# Altium schematic symbol library FPG-YAY.SchLib: 9 symbols
Pins are listed as number, name and electrical type; pins without a type are passive.

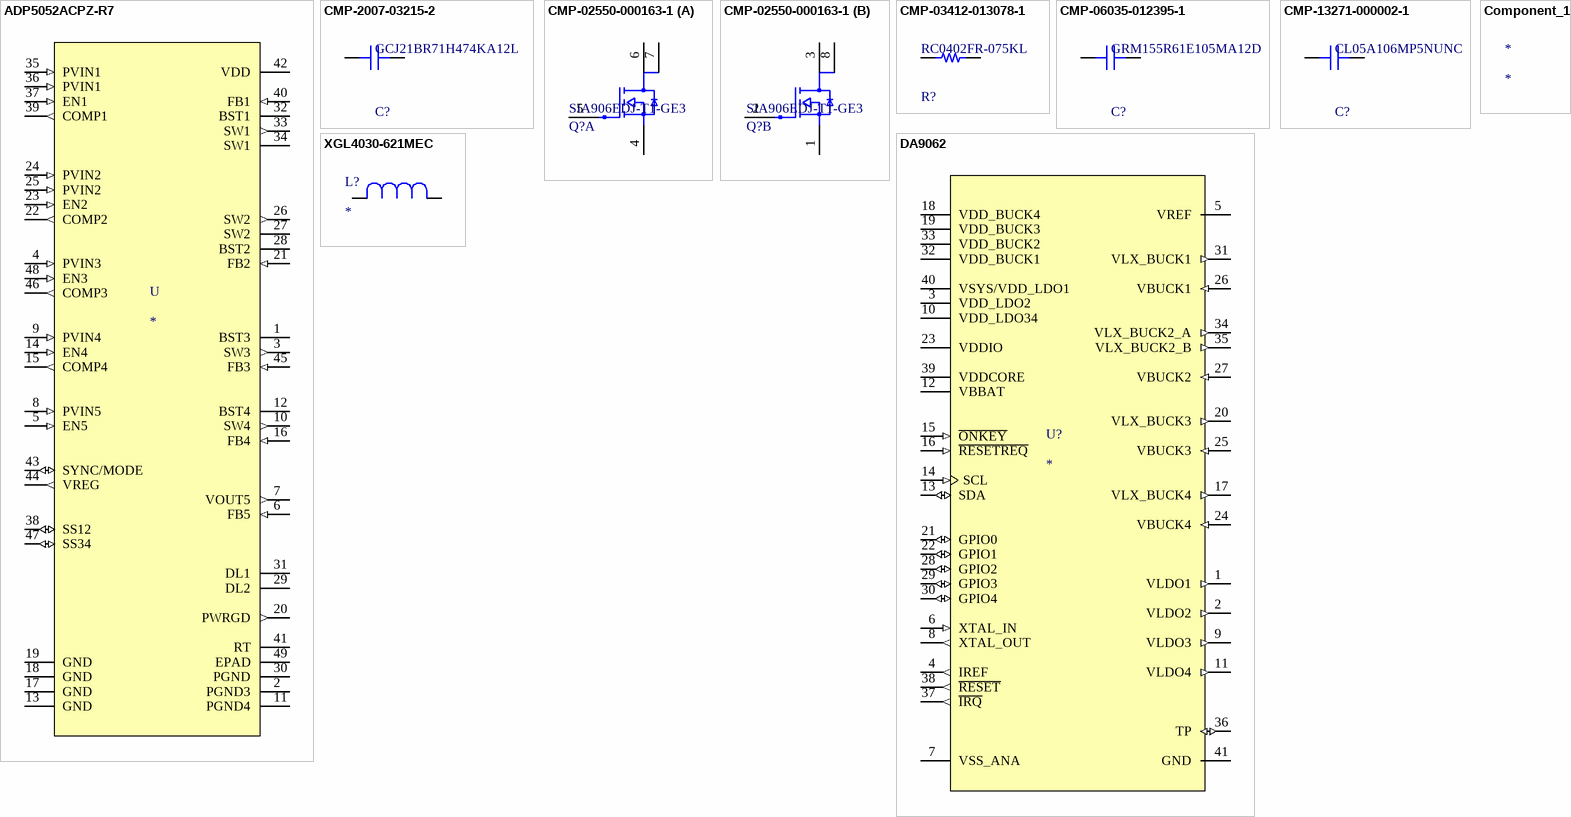
[diagram p0: symbols ADP5052ACPZ-R7 to XGL4030-621MEC]

## ADP5052ACPZ-R7
designator U
PMIC - Voltage Regulators - Linear + Switching 5 Output Step-Down _Buck_ Synchronous _4_, Linear _LDO_ _1_ 740kHz 48-LFCSP-WQ _7x7_; MP: ADP5052ACPZ-R7; MF: Analog Devices; Price: None; Value: *; Package: LFCSP -48 Analog Devices; SnapEDA_Link: https://www.snapeda.com/parts/ADP5052ACPZ-R7/Analog%20Devices%20Inc./view-part/478810/?ref=snap; Availability: Unavailable
footprint QFN50P700X700X80-49N
pins: 1 BST3, 2 PGND3 (power), 3 SW3 (out), 4 PVIN3 (in), 5 EN5 (in), 6 FB5 (in), 7 VOUT5 (out), 8 PVIN5 (in), 9 PVIN4 (in), 10 SW4 (out), 11 PGND4 (power), 12 BST4, 13 GND (power), 14 EN4 (in), 15 COMP4 (out), 16 FB4 (in), 17 GND (power), 18 GND (power), 19 GND (power), 20 PWRGD (out), 21 FB2 (in), 22 COMP2 (out), 23 EN2 (in), 24 PVIN2 (in), 25 PVIN2 (in), 26 SW2 (out), 27 SW2, 28 BST2, 29 DL2, 30 PGND (power), 31 DL1, 32 BST1, 33 SW1 (out), 34 SW1, 35 PVIN1 (in), 36 PVIN1 (in), 37 EN1 (in), 38 SS12 (io), 39 COMP1 (out), 40 FB1 (in), 41 RT, 42 VDD (power), 43 SYNC/MODE (io), 44 VREG (out), 45 FB3 (in), 46 COMP3 (out), 47 SS34 (io), 48 EN3 (in), 49 EPAD (power)

## CMP-2007-03215-2
designator C?, comment GCJ21BR71H474KA12L
Multilayer Ceramic Capacitors MLCC - SMD/SMT 0805 0.47uF 10%, 50VDC,  X7R 15%; Voltage Rating (DC): 50V; Capacitance: 470nF; Case Code (Imperial): 0805; Tolerance: 10%; Length: 0.079inch; Packaging: Tape and Reel; Voltage Rating: 50V; Depth: 1.25mm; Lead Free: Lead Free; Features: Soft Termination; Min Operating Temperature: -55°C; Thickness: 0.057inch; Ratings: AEC-Q200; Case/Package: 0805; Dielectric: X7R; Case Code (Metric): 2012; Mount: Surface Mount; Termination: SMD/SMT; Width: 0.049inch; Max Operating Temperature: 125°C; Package Quantity: 3000
footprint FP-GCJ21B-0_3-IPC_B
footprint FP-GCJ21B-0_3-IPC_C
footprint FP-GCJ21B-0_3-IPC_A
footprint FP-GCJ21B-0_3-MFG
pins: 1, 2

## CMP-02550-000163-1
designator Q?, comment SIA906EDJ-T1-GE3
MOSFET 2N-CH 20V 4.5A SC70-6; Manufacturer: Vishay; Transconductance: 14S; Rthja Max: 52°C/W; Turn On Delay Time: 5ns; Number Of Channels: 2; Threshold Vgs Max: 1.4V; Input Capacitace At Vds: 350pF @ 10V; Power Dissipation: 1.9W; Threshold Vgs Min: 0.6V; Drain To Source Resistance: 0.037Ω; Reverse Recovery Charge: 8nC; Depletion Mode: False; Turn Off Delay Time: 15ns; Gate Charge At Vgs: 7.5nC @ 10V; Typ Forward Diode Voltage: 0.8V; Gate To Source Voltage: 12V; Pulse Drain Current: 15A; Standoff Height: 0mm; Max Forward Diode Voltage: 1.2V; Max Junction Temp: +150°C; Temperature Range Low: -55°C; Manufacturer Part Number: SIA906EDJ-T1-GE3; Automotive: No; Digikey Description: MOSFET 2N-CH 20V 4.5A SC70-6; Drain To Source Voltage: 20V; Continuous Drain Current: 4.5A; Number Of N Channels: 2; Device Class L2: Transistors; Category: Trans; Footprint Url: https://www.vishay.com/docs/70487/70487.pdf; Device Class L3: MOSFETs; Package: C-07431-DUAL; Octopart: https://octopart.com/sia906edj-t1-ge3-vishay-44597396; ComponentLink2URL: https://www.vishay.com/docs/69067/sia906ed.pdf; Device Class L1: Discrete Semiconductors; Temperature Range High: +150°C; RoHS: TRUE; Reverse Recovery Time: 15ns; Drain To Source Breakdown Voltage: 20V; ComponentLink2Description: Datasheet; Lead Free: Yes; Mouser Description: MOSFET 20V 4.5A 7.8W 46mohm @ 4.5V; Height: 0.85mm; Temperature: -55°C to +150°C
footprint FP-C-07431-DUAL-MFG
part A pins: 4 S1, 5 G1, 6 D1, 7 D1
part B pins: 1 S1, 2 G1, 3 D1, 8 D1

## CMP-03412-013078-1
designator R?, comment RC0402FR-075KL
RES SMD 5K OHM 1% 1/16W 0402; Manufacturer: Yageo; Resistance: 5kΩ; Temperature Coefficient: 100ppm/°C; Power Rating: 0.0625W; Voltage Rating: 50V; Value: 5kΩ; Temperature Range Low: -55°C; Lead Free: Yes; RoHS: TRUE; Device Class L2: Resistors; Package: RC0402; Footprint Url: https://pccomponents.com/datasheets/YAGEO-20RESISTORS.PDF; Height: 0.4mm; ComponentLink2URL: http://www.yageo.com/documents/recent/PYu-RC_Group_51_RoHS_L_10.pdf; Temperature: -55°C to +155°C; Composition: Thick Film; Device Class L1: Passive Components; Series: RC_L; Ipc Land Pattern Name: RESC10050X35; Tolerance: 1%; Device Class L3: Chip SMD Resistors; Temperature Range High: +155°C; Category: Res; Automotive: No; Octopart: https://octopart.com/rc0402fr-075kl-yageo-25450038; Digikey Description: RES SMD 5K OHM 1% 1/16W 0402; ComponentLink2Description: Datasheet; Manufacturer Part Number: RC0402FR-075KL
footprint FP-RC0402-IPC_B
footprint FP-RC0402-MFG
footprint FP-RC0402-IPC_C
footprint FP-RC0402-IPC_A
pins: 1, 2

## CMP-06035-012395-1
designator C?, comment GRM155R61E105MA12D
Chip Multilayer Ceramic Capacitors for General Purpose, 0402, 1.0uF, X5R, 15%, 20%, 25V; Capacitance: 1uF; Weight: 0.000212oz; Dielectric: X5R; Case Code (Metric): 1005; Thickness: 0.022inch; Min Operating Temperature: -55°C; Voltage Rating (DC): 25V; Lead Free: Lead Free; Voltage Rating: 25V; Max Operating Temperature: 85°C; Case/Package: 0402; Packaging: Tape and Reel; Package Quantity: 10000; Termination: SMD/SMT; Height: 0.5mm; Width: 0.5mm; Mount: Surface Mount; Case Code (Imperial): 0402; Tolerance: 20%; Length: 0.039inch
footprint FP-GRM155-0_05-IPC_A
footprint FP-GRM155-0_05-IPC_C
footprint FP-GRM155-0_05-IPC_B
footprint FP-GRM155-0_05-MFG
pins: 1, 2

## CMP-13271-000002-1
designator C?, comment CL05A106MP5NUNC
CAP CER 10UF 10V X5R 0402; Manufacturer: Samsung; Temperature Coefficient: 15%; Tolerance: 20%; Material: Ceramic; Octopart: https://octopart.com/cl05a106mp5nunc-samsung-22457395; Voltage Rating: 10V; RoHS: TRUE; Value: 10uF; Height: 0.7mm; Digikey Description: CAP CER 10UF 10V X5R 0402; Automotive: No; Package: CL05A106MP5NUNC; Device Class L1: Passive Components; Capacitance: 10uF; Temperature Range High: +85°C; ComponentLink2Description: Datasheet; Device Class L2: Capacitors; Temperature Characteristic: X5R; Manufacturer Part Number: CL05A106MP5NUNC; Temperature: -55°C to +85°C; ComponentLink2URL: http://www.samsungsem.com/kr/support/product-search/mlcc/__icsFiles/afieldfile/2019/05/10/19-CL05A106MP5NUNC.pdf; Device Class L3: Ceramic Capacitors; Category: Cap; Temperature Range Low: -55°C; Ipc Land Pattern Name: CAPC10050X50; Lead Free: Yes
footprint FP-GRM155-0_05-IPC_A
pins: 1, 2

## Component_1
designator *

## DA9062
designator U?
Dialog Semiconductor 8.5A System PMIC _4 bucks + 4 LDO + RTC_; -00 are un-programmed parts. ONLY for AVNET.; MP: DA9062-00AM2; Availability: Unavailable; Price: None; Value: *; MF: Dialog Semiconductor; SnapEDA_Link: https://www.snapeda.com/parts/DA9062-00AM2/Dialog%20Semiconductor/view-part/2651530/?ref=snap; Package: QFN-40 Dialog Semiconductor
footprint QFN50P600X600X90-41N
pins: 1 VLDO1 (out), 2 VLDO2 (out), 3 VDD_LDO2 (power), 4 IREF (out), 5 VREF (power), 6 XTAL_IN (in), 7 VSS_ANA (power), 8 XTAL_OUT (out), 9 VLDO3 (out), 10 VDD_LDO34 (power), 11 VLDO4 (out), 12 VBBAT (power), 13 SDA (io), 14 SCL (in), 15 ~{ONKEY} (in), 16 ~{RESETREQ} (in), 17 VLX_BUCK4 (out), 18 VDD_BUCK4 (power), 19 VDD_BUCK3 (power), 20 VLX_BUCK3 (out), 21 GPIO0 (io), 22 GPIO1 (io), 23 VDDIO (power), 24 VBUCK4 (in), 25 VBUCK3 (in), 26 VBUCK1 (in), 27 VBUCK2 (in), 28 GPIO2 (io), 29 GPIO3 (io), 30 GPIO4 (io), 31 VLX_BUCK1 (out), 32 VDD_BUCK1 (power), 33 VDD_BUCK2 (power), 34 VLX_BUCK2_A (out), 35 VLX_BUCK2_B (out), 36 TP (io), 37 ~{IRQ} (out), 38 ~{RESET} (out), 39 VDDCORE (power), 40 VSYS/VDD_LDO1 (power), 41 GND (power)

## XGL4030-621MEC
designator L?
No Description Available; Mfr_Name: Coilcraft
footprint IND_XGL4030_COC
pins: 1, 2